# Altium schematic symbol library RF Misc.SchLib: 3 symbols
Pins are listed as number, name and electrical type; pins without a type are passive.

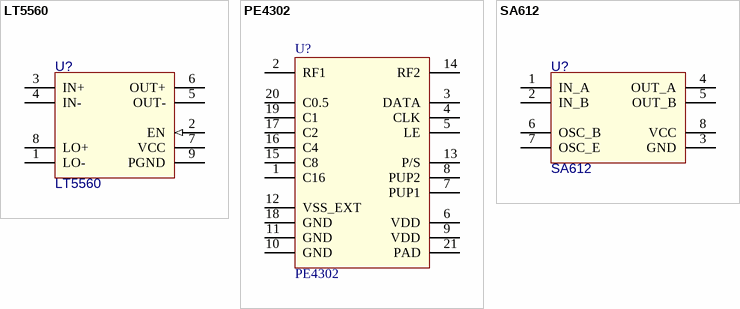
[diagram p0: symbols LT5560 to SA612]

## LT5560
designator U?, comment value LT5560  (hidden comment: SA612)
Double-balanced mixer and oscillator
footprint DFN-8-3X3 (DD8) (DFN, 8-Leads, Body 3.00x3.00mm, Pitch 0.50mm, Thermal Pad 2.41x1.16mm, IPC Medium Density)
pins: 1 LO-, 2 EN (in), 3 IN+, 4 IN-, 5 OUT-, 6 OUT+, 7 VCC (power), 8 LO+, 9 PGND (power)

## PE4302
designator U?
UltraCMOS® RF Digital Step Attenuator 6-bit, 31.5 dB, 1 MHz–4 GHz; Value: PE4302
footprint QFN-20-4X4 (QFN, 20-Leads, Body 4.00x4.00mm, Pitch 0.50mm, Thermal Pad 2.20x2.20mm, IPC Medium Density)
pins: 1 C16 "Attenuation control bit, 16 dB", 2 RF1, 3 DATA "Serial interface data input", 4 CLK "Serial interface clock input", 5 LE "Latch Enable input", 6 VDD (power) "Supply voltage (nominal 3.3V)", 7 PUP1 "Power-up selection bit 1", 8 PUP2 "Power-up selection bit 2", 9 VDD (power) "Supply voltage (nominal 3.3V)", 10 GND, 11 GND, 12 VSS_EXT, 13 P/S "Parallel/Serial mode select", 14 RF2 "RF2 port (RF output)", 15 C8 "Attenuation control bit, 8 dB", 16 C4 "Attenuation control bit, 4 dB", 17 C2 "Attenuation control bit, 2 dB", 18 GND, 19 C1 "Attenuation control bit, 1 dB", 20 C0.5 "Attenuation control bit, 0.5 dB", 21 PAD

## SA612
designator U?
Double-balanced mixer and oscillator; Value: SA612
footprint SO-8 (D0008A) (SOP, 8-Leads, Body 4.91x3.90mm, Pitch 1.27mm, IPC Medium Density)
pins: 1 IN_A, 2 IN_B, 3 GND (power), 4 OUT_A, 5 OUT_B, 6 OSC_B, 7 OSC_E, 8 VCC (power)